# Altium footprint library CR0402-FX-1001GLF.PcbLib: 3 footprints
Each footprint in its own frame and in the unit in brackets; x right, y up, seen from the top. Pads: shape width x height; smd on the part's side, far side on the other; paste and mask are expansions set on the pad; w line width, h text height; cw(c..) or ccw(c..) is an arc to the next point about the centre after c.
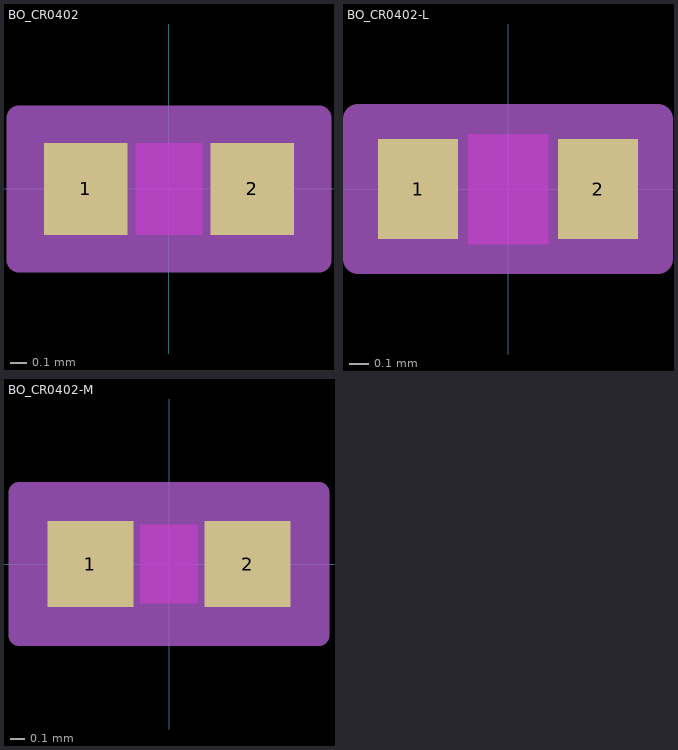
[diagram p0: the footprints below, top view; thin cyan lines are the x and y axes]

## BO_CR0402 [mil]
pads (2):
  rect 20x22 smd paste+0 mask+0: 1(-20,0) 2(20,0)
Top Layer keep-out:
  region: -8,-9 -8,9 8,9 8,-9
Top Overlay:
  text ".Designator" at -137.5,-25 h50
Keep-Out Layer:
  region: -8,-11 -8,11 8,11 8,-11
Mechanical 13:
  lines w1: -22,-11 -22,11 ; -22,-11 -10,-11 -10,11 -22,11 ; -22,-11 22,-11 ; -22,-11 -22,11 ; -22,11 22,11 ; 22,-11 10,-11 10,11 22,11 ; 22,-11 22,11 ; 22,-11 22,11
  text ".Designator" at -137.5,-25 h50
Mechanical 15:
  region: 36,-17 -36,-17 -36,17 36,17
  lines w6: -36,-17 -36,17 36,17 36,-17 -36,-17
3D body "BO_CR0402.step": height 15.98, standoff 0, extent -22.01,-10.98 22.01,10.98

## BO_CR0402-L [mil]
pads (2):
  rect 16x20 smd paste+0 mask+0: 1(-18,0) 2(18,0)
Top Layer keep-out:
  region: -8,-9 -8,9 8,9 8,-9
Top Overlay:
  text ".Designator" at -137.5,-25 h50
Keep-Out Layer:
  region: -8,-11 -8,11 8,11 8,-11
Mechanical 13:
  lines w1: -22,-11 -22,11 ; -22,-11 -10,-11 -10,11 -22,11 ; -22,-11 22,-11 ; -22,-11 -22,11 ; -22,11 22,11 ; 22,-11 10,-11 10,11 22,11 ; 22,-11 22,11 ; 22,-11 22,11
  text ".Designator" at -137.5,-25 h50
Mechanical 15:
  region: 30,-14 -30,-14 -30,14 30,14
  lines w6: -30,-14 -30,14 30,14 30,-14 -30,-14
3D body "BO_CR0402.step": height 15.98, standoff 0, extent -22.01,-10.98 22.01,10.98

## BO_CR0402-M [mil]
pads (2):
  rect 24x24 smd paste+0 mask+0: 1(-22,0) 2(22,0)
Top Layer keep-out:
  region: -8,-9 -8,9 8,9 8,-9
Top Overlay:
  text ".Designator" at -137.5,-25 h50
Keep-Out Layer:
  region: -8,-11 -8,11 8,11 8,-11
Mechanical 13:
  lines w1: -22,-11 -22,11 ; -22,-11 -10,-11 -10,11 -22,11 ; -22,-11 22,-11 ; -22,-11 -22,11 ; -22,11 22,11 ; 22,-11 10,-11 10,11 22,11 ; 22,-11 22,11 ; 22,-11 22,11
  text ".Designator" at -137.5,-25 h50
Mechanical 15:
  region: 42,-20 -42,-20 -42,20 42,20
  lines w6: -42,-20 -42,20 42,20 42,-20 -42,-20
3D body "BO_CR0402.step": height 15.98, standoff 0, extent -22.01,-10.98 22.01,10.98